# Altium footprint library DC-connector.PcbLib: 2 footprints
Each footprint in its own frame and in the unit in brackets; x right, y up, seen from the top. Pads: shape width x height; smd on the part's side, far side on the other; paste and mask are expansions set on the pad; w line width, h text height; cw(c..) or ccw(c..) is an arc to the next point about the centre after c.
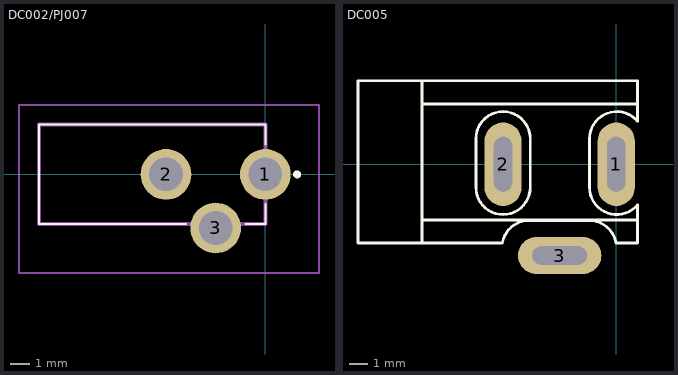
[diagram p0: the footprints below, top view; thin cyan lines are the x and y axes]

## DC002/PJ007 [mm]
pads (3):
  round 2.55 hole 1.7: 1(0,0) 2(-5,0) 3(-2.5,-2.7)
L26-Silk Screen Top (Multiple PADS layers...):
  lines w0.1: -4,-2.5 -11.4,-2.5 -11.4,2.5 0,2.5 0,1.5 ; -1,-2.5 0,-2.5 0,-1.5
  lines w0.2: 1.6,-0.1 ccw(c1.6,0) 1.6,0.1 ccw(c1.6,0) 1.6,-0.1
L15 (Multiple PADS layers...):
  lines w0.2: -11.4,-2.5 0,-2.5 0,2.5 -11.4,2.5 -11.4,-2.5
L20:
  lines w0.1: -12.4,-4.975 2.7,-4.975 2.7,3.5 -12.4,3.5 -12.4,-4.975
3D body "pj-007.stp": height 7.4, standoff -3.2, extent -11.45,-2.675 0,2.675

## DC005 [mil]
pads (3):
  oval 80x180 hole 39.37 slot 118.11 at 90 deg: 1(0,0) 2(-244.09,0)
  oval 180x80 hole 39.37 slot 118.11 at 0 deg: 3(-122.05,-196.85)
L26-Silk Screen Top (Multiple PADS layers...):
  lines w6: -419.09,-120 45.91,-120 ; -419.09,130 41.04,130 45.15,130 ; -414.09,180 -434.09,180 -556.89,180 -556.89,-170 -419.09,-170 ; -250.09,-170 -419.09,-170 ; -245.73,-169.84 cw(c-188.09,-180) -188.09,-121.48 -58.09,-121.48 cw(c-58.09,-180) -0.46,-169.84 ; 0.91,-170 45.91,-170 45.91,-90 ; 45.74,-87.62 cw(c0.91,-50) -57.62,-50 -57.62,55 cw(c0.91,55) 45.74,92.62 45.91,180 -419.09,180 -419.09,-170 ; -185.57,55 ccw(c-244.09,55) -302.62,55 -302.62,-50 ccw(c-244.09,-50) -185.57,-50 -185.57,55 ; -185.57,55 -185.57,55
3D body "DC005.STEP": height 452.76, standoff -118.11, extent -542.56,-195 24.37,171.14